# Altium schematic symbol library Schlib_Optek_Tecnologies.SchLib: 1 symbol
Pins are listed as number, name and electrical type; pins without a type are passive.

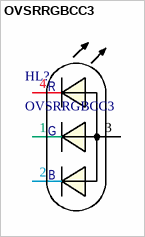
[diagram p0: symbol OVSRRGBCC3]

## OVSRRGBCC3
designator HL?
Full-Color 1204 SMD RGB led; Manufacturer: Optek Tecnologies; Wavelength Peak: 635nm Red, 535nm Green, 475nm Blue; Part Number: OVSRRGBCC3; Package: SMD1204
footprint SMD1204
pins: 1, 2, 3, 4
text: R; G; B